# Altium schematic symbol library CHIP.SchLib: 12 symbols
Pins are listed as number, name and electrical type; pins without a type are passive.

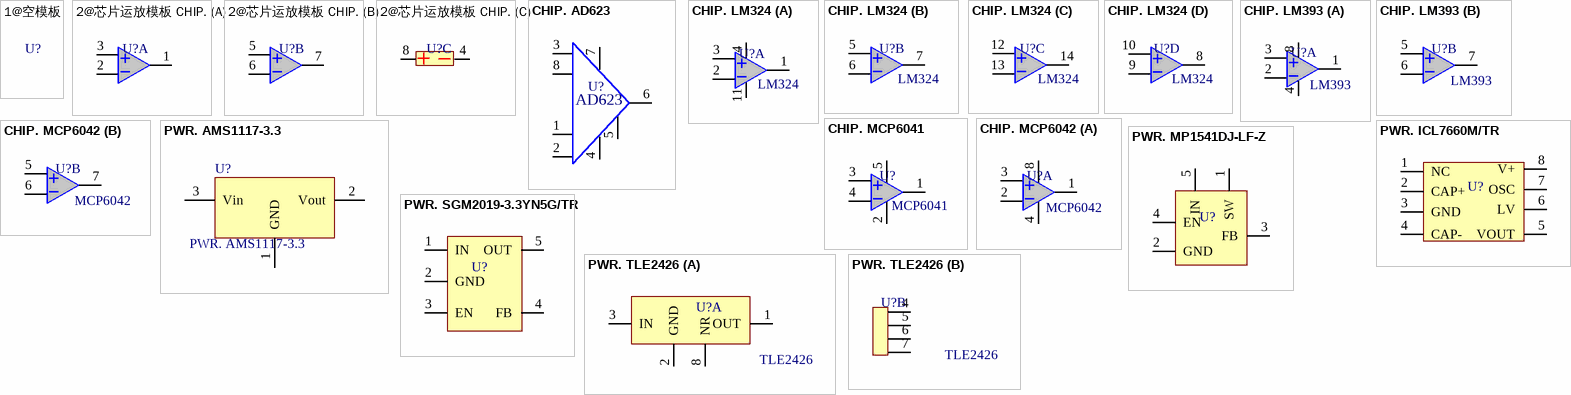
[diagram p0: symbols 1@空模板 to PWR. TLE2426]

## 1@空模板
designator U?  (value not drawn)
A.元件编号: *; B.元件名称: *; C.元件类型: *; D.元件型号: *; E.封装规格: *; F.阻值(Ω)/容值(μF): *; G.电压: *; H.精度: *; I.焊盘数量: *; J.品牌产地: *; 单价/元: *; 原创: *; 备注: *

## 2@芯片运放模板 CHIP.
designator U?
A.元件编号: *; C.元件类型: *; D.元件型号: *; E.封装规格: *; F.阻值(Ω)/容值(μF): *; G.电压: *; H.精度: *; I.焊盘数量: *; J.品牌产地: *; 单价/元: *; 原创: *; 备注: *
part A pins: 1, 2, 3
part B pins: 5, 6, 7
part C pins: 4, 8

## CHIP. AD623
designator U?  (value not drawn)
仪表放大器; A.元件编号: *; B.元件名称: *; C.元件类型: *; D.元件型号: *; E.封装规格: *; F.阻值(Ω)/容值(μF): *; G.电压: *; H.精度: *; I.焊盘数量: *; J.品牌产地: *; 单价/元: *; 原创: *; 备注: *
footprint SOIC-8 (SOIC, 8-Leads, Body 4.90x3.90mm, Pitch 1.27mm, IPC Medium Density)
pins: 1, 2, 3, 4, 5, 6, 7, 8
text: AD623

## CHIP. LM324
designator U?, comment LM324
A.元件编号: C351427; C.元件类型: *; D.元件型号: *; E.封装规格: *; F.阻值(Ω)/容值(μF): *; G.电压: *; H.精度: *; I.焊盘数量: *; J.品牌产地: *; 单价/元: *; 原创: *; 备注: *; B.元件名称: LM324
footprint SOP14
part A pins: 1, 2, 3, 4, 11
part B pins: 5, 6, 7
part C pins: 12, 13, 14
part D pins: 8, 9, 10

## CHIP. LM393
designator U?, comment LM393
电压比较器; A.元件编号: C400839; E.封装规格: SOP-8; C.元件类型: *; D.元件型号: *; F.阻值(Ω)/容值(μF): *; G.电压: *; H.精度: *; I.焊盘数量: *; J.品牌产地: *; 单价/元: *; 原创: *; 备注: *; B.元件名称: LM393
footprint SOP-8
part A pins: 1, 2, 3, 4, 8
part B pins: 5, 6, 7

## CHIP. MCP6041
designator U?  B.元件名称: MCP6041  (hidden comment: CHIP. MCP6041)
RTR运算放大器; A.元件编号: *; C.元件类型: *; D.元件型号: *; E.封装规格: *; F.阻值(Ω)/容值(μF): *; G.电压: *; H.精度: *; I.焊盘数量: *; J.品牌产地: *; 单价/元: *; 原创: *; 备注: *
footprint SOT23-5 (SOT143-4 as used in SP0503BAHTG)
pins: 1, 2, 3, 4, 5

## CHIP. MCP6042
designator U?  B.元件名称: MCP6042  (hidden comment: CHIP. MCP6042)
A.元件编号: *; C.元件类型: *; D.元件型号: *; E.封装规格: *; F.阻值(Ω)/容值(μF): *; G.电压: *; H.精度: *; I.焊盘数量: *; J.品牌产地: *; 单价/元: *; 原创: *; 备注: *
footprint SOIC-8 (SOIC, 8-Leads, Body 4.90x3.90mm, Pitch 1.27mm, IPC Medium Density)
part A pins: 1, 2, 3, 4, 8
part B pins: 5, 6, 7

## PWR. AMS1117-3.3
designator U?
低压差线性稳压(LDO)，AMS1117-3.3，1117-3.3，美国AMS，AMS1117-3.3; A.元件编号: C6186; 备注: 立创可贴片元器件; I.焊盘数量: 4; E.封装规格: SOT-223; J.品牌产地: 美国AMS; 单价/元（大批量）: 0.484; D.元件型号: AMS1117-3.3; C.元件类别: 低压差线性稳压(LDO); F.阻值(Ω)/容值(uF): 1117-3.3; Value: *; B.元件名称: AMS1117-3.3; H.精度: *; G.电压: *
footprint SOT223_N
pins: 1 GND, 2 Vout, 3 Vin

## PWR. ICL7660M/TR
designator U?  (value not drawn)
负电源生成; A.元件编号: *; B.元件名称: *; C.元件类型: *; D.元件型号: *; E.封装规格: *; F.阻值(Ω)/容值(μF): *; G.电压: *; H.精度: *; I.焊盘数量: *; J.品牌产地: *; 单价/元: *; 原创: *; 备注: *
footprint SOP-8
pins: 1 NC, 2 CAP+, 3 GND, 4 CAP-, 5 VOUT, 6 LV, 7 OSC, 8 V+

## PWR. MP1541DJ-LF-Z
designator U?  (value not drawn)
升压稳压芯片; A.元件编号: *; B.元件名称: *; C.元件类型: *; D.元件型号: *; E.封装规格: *; F.阻值(Ω)/容值(μF): *; G.电压: *; H.精度: *; I.焊盘数量: *; J.品牌产地: *; 单价/元: *; 原创: *; 备注: *
footprint SOT23-5 (SOT143-4 as used in SP0503BAHTG)
pins: 1 SW, 2 GND, 3 FB, 4 EN, 5 IN

## PWR. SGM2019-3.3YN5G/TR
designator U?  (value not drawn)
稳压芯片3.3V; A.元件编号: *; B.元件名称: *; C.元件类型: *; D.元件型号: *; E.封装规格: *; F.阻值(Ω)/容值(μF): *; G.电压: *; H.精度: *; I.焊盘数量: *; J.品牌产地: *; 单价/元: *; 原创: *; 备注: *
footprint SOT23-5 (SOT143-4 as used in SP0503BAHTG)
footprint SC-70-5
pins: 1 IN, 2 GND, 3 EN, 4 FB, 5 OUT

## PWR. TLE2426
designator U?  B.元件名称: TLE2426  (hidden comment: PWR. TLE2426)
1/2电压; A.元件编号: *; C.元件类型: *; D.元件型号: *; E.封装规格: *; F.阻值(Ω)/容值(μF): *; G.电压: *; H.精度: *; I.焊盘数量: *; J.品牌产地: *; 单价/元: *; 原创: *; 备注: *
footprint SOIC-8 (SOIC, 8-Leads, Body 4.90x3.90mm, Pitch 1.27mm, IPC Medium Density)
part A pins: 1 OUT, 2 GND, 3 IN, 8 NR
part B pins: 4, 5, 6, 7